# Altium schematic symbol library SN74LVC1G32 Single 2-Input Positive-OR Gate.SchLib: 1 symbol
Pins are listed as number, name and electrical type; pins without a type are passive.

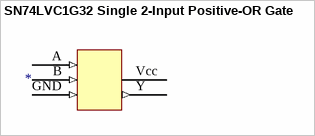
[diagram p0: symbol SN74LVC1G32 Single 2-Input Positive-OR Gate]

## SN74LVC1G32 Single 2-Input Positive-OR Gate
designator ?
pins: A (in), B (in), GND (in), Vcc (power), Y (out)